# Altium footprint library 贴片元器件.PCBLIB: 208 footprints (part 13 of 13)
Each footprint in its own frame and in the unit in brackets; x right, y up, seen from the top. Pads: shape width x height; smd on the part's side, far side on the other; paste and mask are expansions set on the pad; w line width, h text height; cw(c..) or ccw(c..) is an arc to the next point about the centre after c.
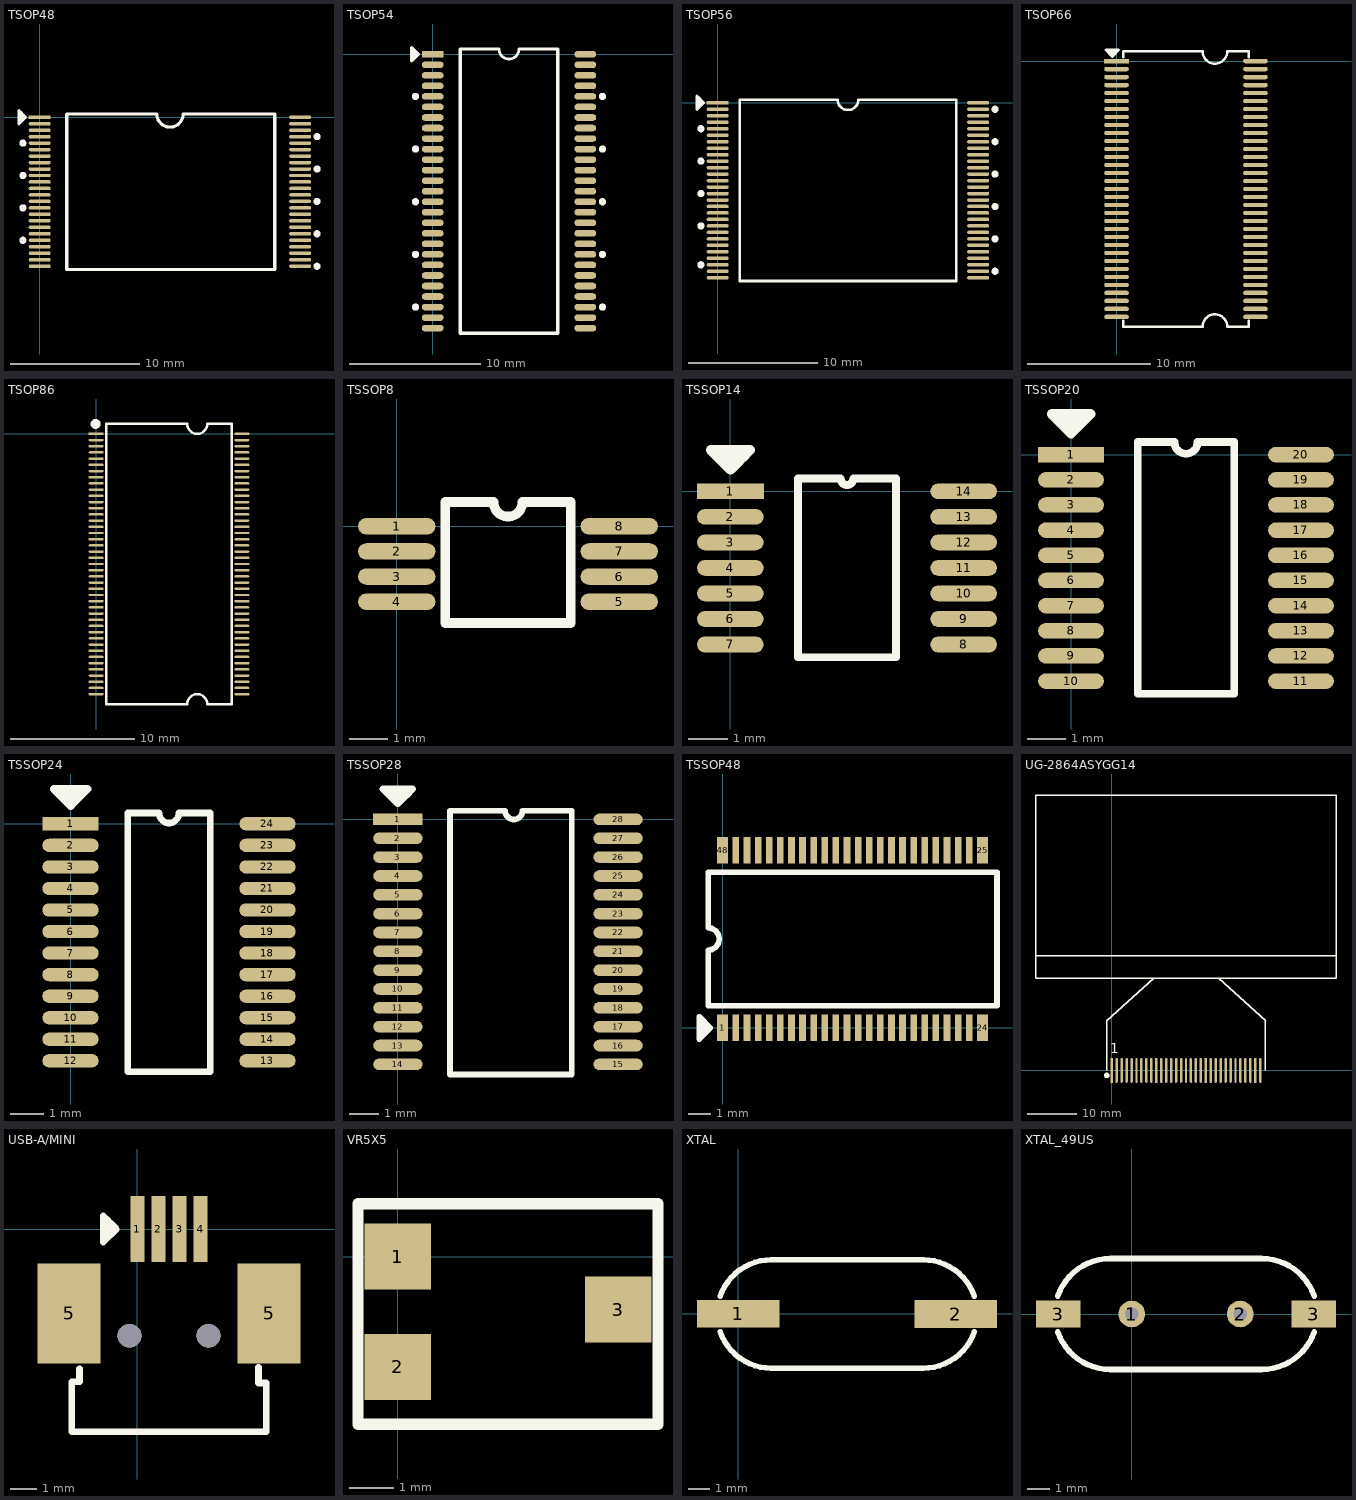
[diagram p12: the footprints below, top view; thin cyan lines are the x and y axes]

## TSOP48 [mm]
pads (48):
  rect 1.7x0.269 smd: 1(0,0)
  oval 1.7x0.269 smd: 2(0,-0.5) 3(0,-1) 4(0,-1.5) 5(0,-2) 6(0,-2.5) 7(0,-3) 8(0,-3.5) 9(0,-4) 10(0,-4.5) 11(0,-5) 12(0,-5.5) 13(0,-6) 14(0,-6.5) 15(0,-7) 16(0,-7.5) 17(0,-8) 18(0,-8.5) 19(0,-9) 20(0,-9.5) 21(0,-10) 22(0,-10.5) 23(0,-11) 24(0,-11.5) 25(20.1,-11.5) 26(20.1,-11) 27(20.1,-10.5) 28(20.1,-10) 29(20.1,-9.5) 30(20.1,-9) 31(20.1,-8.5) 32(20.1,-8) 33(20.1,-7.5) 34(20.1,-7) 35(20.1,-6.5) 36(20.1,-6) 37(20.1,-5.5) 38(20.1,-5) 39(20.1,-4.5) 40(20.1,-4) 41(20.1,-3.5) 42(20.1,-3) 43(20.1,-2.5) 44(20.1,-2) 45(20.1,-1.5) 46(20.1,-1) 47(20.1,-0.5) 48(20.1,0)
TopOverlay:
  circle w0.254: c-1.3,-2 r0.15
  circle w0.254: c-1.3,-4.5 r0.15
  circle w0.254: c-1.3,-7 r0.15
  circle w0.254: c-1.3,-9.5 r0.15
  circle w0.254: c21.4,-11.5 r0.15
  circle w0.254: c21.4,-9 r0.15
  circle w0.254: c21.4,-6.5 r0.15
  circle w0.254: c21.4,-4 r0.15
  circle w0.254: c21.4,-1.5 r0.15
  lines w0.254: -1.406,-0.306 -1.406,0.306 -1.6,0.5 ; -1.6,0.5 -1.6,-0.5 -1.1,0 -1.6,0.5 ; 2.085,-11.75 2.085,0.25 9.034,0.25 ccw(c10.05,0.25) 11.066,0.25 18.142,0.25 18.142,-11.75 2.085,-11.75

## TSOP54 [mm]
pads (54):
  rect 1.651x0.5 smd: 1(0,0)
  oval 1.651x0.5 smd: 2(0,-0.8) 3(0,-1.6) 4(0,-2.4) 5(0,-3.2) 6(0,-4) 7(0,-4.8) 8(0,-5.6) 9(0,-6.4) 10(0,-7.2) 11(0,-8) 12(0,-8.8) 13(0,-9.6) 14(0,-10.4) 15(0,-11.2) 16(0,-12) 17(0,-12.8) 18(0,-13.6) 19(0,-14.4) 20(0,-15.2) 21(0,-16) 22(0,-16.8) 23(0,-17.6) 24(0,-18.4) 25(0,-19.2) 26(0,-20) 27(0,-20.8) 28(11.6,-20.8) 29(11.6,-20) 30(11.6,-19.2) 31(11.6,-18.4) 32(11.6,-17.6) 33(11.6,-16.8) 34(11.6,-16) 35(11.6,-15.2) 36(11.6,-14.4) 37(11.6,-13.6) 38(11.6,-12.8) 39(11.6,-12) 40(11.6,-11.2) 41(11.6,-10.4) 42(11.6,-9.6) 43(11.6,-8.8) 44(11.6,-8) 45(11.6,-7.2) 46(11.6,-6.4) 47(11.6,-5.6) 48(11.6,-4.8) 49(11.6,-4) 50(11.6,-3.2) 51(11.6,-2.4) 52(11.6,-1.6) 53(11.6,-0.8) 54(11.6,0)
TopOverlay:
  circle w0.254: c12.9,-3.2 r0.15
  circle w0.254: c12.9,-7.2 r0.15
  circle w0.254: c12.9,-11.2 r0.15
  circle w0.254: c12.9,-15.2 r0.15
  circle w0.254: c12.9,-19.2 r0.15
  circle w0.254: c-1.3,-19.2 r0.15
  circle w0.254: c-1.3,-15.2 r0.15
  circle w0.254: c-1.3,-11.2 r0.15
  circle w0.254: c-1.3,-7.2 r0.15
  circle w0.254: c-1.3,-3.2 r0.15
  lines w0.203: 5.038,0.4 ccw(c5.8,0.4) 6.562,0.4
  lines w0.254: -1.406,-0.306 -1.406,0.306 -1.6,0.5 ; 5.038,0.4 2.085,0.4 2.085,-21.2 9.515,-21.2 9.515,0.4 6.562,0.4 ; -1.6,0.5 -1.6,-0.5 -1.1,0 -1.6,0.5

## TSOP56 [mm]
pads (56):
  rect 1.7x0.27 smd: 1(0,0)
  oval 1.7x0.27 smd: 2(0,-0.5) 3(0,-1) 4(0,-1.5) 5(0,-2) 6(0,-2.5) 7(0,-3) 8(0,-3.5) 9(0,-4) 10(0,-4.5) 11(0,-5) 12(0,-5.5) 13(0,-6) 14(0,-6.5) 15(0,-7) 16(0,-7.5) 17(0,-8) 18(0,-8.5) 19(0,-9) 20(0,-9.5) 21(0,-10) 22(0,-10.5) 23(0,-11) 24(0,-11.5) 25(0,-12) 26(0,-12.5) 27(0,-13) 28(0,-13.5) 29(20.1,-13.5) 30(20.1,-13) 31(20.1,-12.5) 32(20.1,-12) 33(20.1,-11.5) 34(20.1,-11) 35(20.1,-10.5) 36(20.1,-10) 37(20.1,-9.5) 38(20.1,-9) 39(20.1,-8.5) 40(20.1,-8) 41(20.1,-7.5) 42(20.1,-7) 43(20.1,-6.5) 44(20.1,-6) 45(20.1,-5.5) 46(20.1,-5) 47(20.1,-4.5) 48(20.1,-4) 49(20.1,-3.5) 50(20.1,-3) 51(20.1,-2.5) 52(20.1,-2) 53(20.1,-1.5) 54(20.1,-1) 55(20.1,-0.5) 56(20.1,0)
TopOverlay:
  circle w0.254: c-1.3,-2 r0.15
  circle w0.254: c-1.3,-4.5 r0.15
  circle w0.254: c-1.3,-7 r0.15
  circle w0.254: c-1.3,-9.5 r0.15
  circle w0.254: c-1.3,-12.5 r0.15
  circle w0.254: c21.4,-13 r0.15
  circle w0.254: c21.4,-10.5 r0.15
  circle w0.254: c21.4,-8 r0.15
  circle w0.254: c21.4,-5.5 r0.15
  circle w0.254: c21.4,-3 r0.15
  circle w0.254: c21.4,-0.5 r0.15
  lines w0.2: 1.685,-13.75 18.415,-13.75 18.415,0.25 10.85,0.25 cw(c10.05,0.25) 9.25,0.25 1.685,0.25 1.685,-13.75
  lines w0.254: -1.406,-0.306 -1.406,0.306 -1.6,0.5 ; -1.6,0.5 -1.6,-0.5 -1.1,0 -1.6,0.5

## TSOP66 [mm]
pads (66):
  rect 2x0.35 smd: 1(0,0)
  oval 2x0.35 smd: 2(0,-0.65) 3(0,-1.3) 4(0,-1.95) 5(0,-2.6) 6(0,-3.25) 7(0,-3.9) 8(0,-4.55) 9(0,-5.2) 10(0,-5.85) 11(0,-6.5) 12(0,-7.15) 13(0,-7.8) 14(0,-8.45) 15(0,-9.1) 16(0,-9.75) 17(0,-10.4) 18(0,-11.05) 19(0,-11.7) 20(0,-12.35) 21(0,-13) 22(0,-13.65) 23(0,-14.3) 24(0,-14.95) 25(0,-15.6) 26(0,-16.25) 27(0,-16.9) 28(0,-17.55) 29(0,-18.2) 30(0,-18.85) 31(0,-19.5) 32(0,-20.15) 33(0,-20.8) 34(11.3,-20.8) 35(11.3,-20.15) 36(11.3,-19.5) 37(11.3,-18.85) 38(11.3,-18.2) 39(11.3,-17.55) 40(11.3,-16.9) 41(11.3,-16.25) 42(11.3,-15.6) 43(11.3,-14.95) 44(11.3,-14.3) 45(11.3,-13.65) 46(11.3,-13) 47(11.3,-12.35) 48(11.3,-11.7) 49(11.3,-11.05) 50(11.3,-10.4) 51(11.3,-9.75) 52(11.3,-9.1) 53(11.3,-8.45) 54(11.3,-7.8) 55(11.3,-7.15) 56(11.3,-6.5) 57(11.3,-5.85) 58(11.3,-5.2) 59(11.3,-4.55) 60(11.3,-3.9) 61(11.3,-3.25) 62(11.3,-2.6) 63(11.3,-1.95) 64(11.3,-1.3) 65(11.3,-0.65) 66(11.3,0)
TopOverlay:
  lines w0.2: 0.55,-21.1 0.55,-21.6 7,-21.6 cw(c8,-21.6) 9,-21.6 10.75,-21.6 10.75,-21.1 ; 0.55,0.3 0.55,0.8 7,0.8 ccw(c8,0.8) 9,0.8 10.75,0.8 10.75,0.3
  lines w0.254: -0.656,0.706 -0.044,0.706 0.15,0.9 ; 0.15,0.9 -0.85,0.9 -0.35,0.4 0.15,0.9

## TSOP86 [mm]
pads (86):
  rect 1.2x0.2 smd: 1(0,0)
  oval 1.2x0.2 smd: 2(0,-0.5) 3(0,-1) 4(0,-1.5) 5(0,-2) 6(0,-2.5) 7(0,-3) 8(0,-3.5) 9(0,-4) 10(0,-4.5) 11(0,-5) 12(0,-5.5) 13(0,-6) 14(0,-6.5) 15(0,-7) 16(0,-7.5) 17(0,-8) 18(0,-8.5) 19(0,-9) 20(0,-9.5) 21(0,-10) 22(0,-10.5) 23(0,-11) 24(0,-11.5) 25(0,-12) 26(0,-12.5) 27(0,-13) 28(0,-13.5) 29(0,-14) 30(0,-14.5) 31(0,-15) 32(0,-15.5) 33(0,-16) 34(0,-16.5) 35(0,-17) 36(0,-17.5) 37(0,-18) 38(0,-18.5) 39(0,-19) 40(0,-19.5) 41(0,-20) 42(0,-20.5) 43(0,-21) 44(11.76,-21) 45(11.76,-20.5) 46(11.76,-20) 47(11.76,-19.5) 48(11.76,-19) 49(11.76,-18.5) 50(11.76,-18) 51(11.76,-17.5) 52(11.76,-17) 53(11.76,-16.5) 54(11.76,-16) 55(11.76,-15.5) 56(11.76,-15) 57(11.76,-14.5) 58(11.76,-14) 59(11.76,-13.5) 60(11.76,-13) 61(11.76,-12.5) 62(11.76,-12) 63(11.76,-11.5) 64(11.76,-11) 65(11.76,-10.5) 66(11.76,-10) 67(11.76,-9.5) 68(11.76,-9) 69(11.76,-8.5) 70(11.76,-8) 71(11.76,-7.5) 72(11.76,-7) 73(11.76,-6.5) 74(11.76,-6) 75(11.76,-5.5) 76(11.76,-5) 77(11.76,-4.5) 78(11.76,-4) 79(11.76,-3.5) 80(11.76,-3) 81(11.76,-2.5) 82(11.76,-2) 83(11.76,-1.5) 84(11.76,-1) 85(11.76,-0.5) 86(11.76,0)
TopOverlay:
  circle w0.4: c-0.04,0.8 r0.2
  lines w0.2: 0.8,-21.8 0.8,0.8 7.36,0.8 ccw(c8.16,0.8) 8.96,0.8 10.96,0.8 10.96,-21.8 8.96,-21.8 ccw(c8.16,-21.8) 7.36,-21.8 0.8,-21.8

## TSSOP8 [mil]
pads (8):
  oval 80x17 smd: 1(0,0) 2(0,-26) 3(0,-52) 4(0,-78) 5(230,-78) 6(230,-52) 7(230,-26) 8(230,0)
TopOverlay:
  lines w10: 50,-100 180,-100 180,25 130,25 cw(c115,25) 100,25 50,25 50,-100

## TSSOP14 [mm]
pads (14):
  rect 1.7x0.4 smd: 1(0,0)
  oval 1.7x0.4 smd: 2(0,-0.65) 3(0,-1.3) 4(0,-1.95) 5(0,-2.6) 6(0,-3.25) 7(0,-3.9) 8(5.94,-3.9) 9(5.94,-3.25) 10(5.94,-2.6) 11(5.94,-1.95) 12(5.94,-1.3) 13(5.94,-0.65) 14(5.94,0)
TopOverlay:
  lines w0.2: 1.725,-4.225 4.215,-4.225 4.215,0.325 3.132,0.325 cw(c2.97,0.325) 2.808,0.325 1.725,0.325 1.725,-4.225
  lines w0.254: -0.306,0.856 0.306,0.856 0.5,1.05 ; 0.5,1.05 -0.5,1.05 0,0.55 0.5,1.05

## TSSOP20 [mm]
pads (20):
  rect 1.7x0.4 smd: 1(0,0)
  oval 1.7x0.4 smd: 2(0,-0.65) 3(0,-1.3) 4(0,-1.95) 5(0,-2.6) 6(0,-3.25) 7(0,-3.9) 8(0,-4.55) 9(0,-5.2) 10(0,-5.85) 11(5.94,-5.85) 12(5.94,-5.2) 13(5.94,-4.55) 14(5.94,-3.9) 15(5.94,-3.25) 16(5.94,-2.6) 17(5.94,-1.95) 18(5.94,-1.3) 19(5.94,-0.65) 20(5.94,0)
TopOverlay:
  lines w0.2: 1.725,-6.175 4.215,-6.175 4.215,0.325 3.27,0.325 cw(c2.97,0.325) 2.67,0.325 1.725,0.325 1.725,-6.175
  lines w0.254: -0.306,0.856 0.306,0.856 0.5,1.05 ; 0.5,1.05 0,0.55 -0.5,1.05 0.5,1.05

## TSSOP24 [mm]
pads (24):
  rect 1.7x0.4 smd: 1(0,0)
  oval 1.7x0.4 smd: 2(0,-0.65) 3(0,-1.3) 4(0,-1.95) 5(0,-2.6) 6(0,-3.25) 7(0,-3.9) 8(0,-4.55) 9(0,-5.2) 10(0,-5.85) 11(0,-6.5) 12(0,-7.15) 13(5.94,-7.15) 14(5.94,-6.5) 15(5.94,-5.85) 16(5.94,-5.2) 17(5.94,-4.55) 18(5.94,-3.9) 19(5.94,-3.25) 20(5.94,-2.6) 21(5.94,-1.95) 22(5.94,-1.3) 23(5.94,-0.65) 24(5.94,0)
TopOverlay:
  lines w0.2: 1.725,-7.475 1.725,0.325 2.67,0.325 ccw(c2.97,0.325) 3.27,0.325 4.215,0.325 4.215,-7.475 1.725,-7.475
  lines w0.254: -0.306,0.856 0.306,0.856 0.5,1.05 ; 0.5,1.05 0,0.55 -0.5,1.05 0.5,1.05

## TSSOP28 [mm]
pads (28):
  rect 1.7x0.4 smd: 1(0,0)
  oval 1.7x0.4 smd: 2(0,-0.65) 3(0,-1.3) 4(0,-1.95) 5(0,-2.6) 6(0,-3.25) 7(0,-3.9) 8(0,-4.55) 9(0,-5.2) 10(0,-5.85) 11(0,-6.5) 12(0,-7.15) 13(0,-7.8) 14(0,-8.45) 15(7.6,-8.45) 16(7.6,-7.8) 17(7.6,-7.15) 18(7.6,-6.5) 19(7.6,-5.85) 20(7.6,-5.2) 21(7.6,-4.55) 22(7.6,-3.9) 23(7.6,-3.25) 24(7.6,-2.6) 25(7.6,-1.95) 26(7.6,-1.3) 27(7.6,-0.65) 28(7.6,0)
TopOverlay:
  lines w0.2: 1.8,-8.8 1.8,0.3 3.7,0.3 ccw(c4,0.3) 4.3,0.3 6,0.3 6,-8.8 1.8,-8.8
  lines w0.254: -0.306,0.856 0.306,0.856 0.5,1.05 ; 0.5,1.05 -0.5,1.05 0,0.55 0.5,1.05

## TSSOP48 [mm]
pads (48):
  rect 0.5x1.2 smd: 1(0,0) 24(11.7,0) 25(11.7,8) 48(0,8)
  rect 0.3x1.2 smd: 2(0.6,0) 3(1.1,0) 4(1.6,0) 5(2.1,0) 6(2.6,0) 7(3.1,0) 8(3.6,0) 9(4.1,0) 10(4.6,0) 11(5.1,0) 12(5.6,0) 13(6.1,0) 14(6.6,0) 15(7.1,0) 16(7.6,0) 17(8.1,0) 18(8.6,0) 19(9.1,0) 20(9.6,0) 21(10.1,0) 22(10.6,0) 23(11.1,0) 26(11.1,8) 27(10.6,8) 28(10.1,8) 29(9.6,8) 30(9.1,8) 31(8.6,8) 32(8.1,8) 33(7.6,8) 34(7.1,8) 35(6.6,8) 36(6.1,8) 37(5.6,8) 38(5.1,8) 39(4.6,8) 40(4.1,8) 41(3.6,8) 42(3.1,8) 43(2.6,8) 44(2.1,8) 45(1.6,8) 46(1.1,8) 47(0.6,8)
TopOverlay:
  lines w0.254: -0.856,-0.306 -0.856,0.306 -1.05,0.5 ; -1.05,0.5 -1.05,-0.5 -0.55,0 -1.05,0.5 ; -0.65,1 12.35,1 12.35,7 -0.65,7 -0.65,4.5 cw(c-0.65,4) -0.65,3.5 -0.65,1

## UG-2864ASYGG14 [mm]
pads (31):
  rect 0.5x5 smd: 1(0,0) 10(9,0) 20(19,0) 30(29,0)
  oval 0.5x5 smd: 2(1,0) 3(2,0) 4(3,0) 5(4,0) 6(5,0) 7(6,0) 8(7,0) 9(8,0) 11(10,0) 12(11,0) 13(12,0) 14(13,0) 15(14,0) 16(15,0) 17(16,0) 18(17,0) 19(18,0) 21(20,0) 22(21,0) 23(22,0) 24(23,0) 25(24,0) 26(25,0) 27(26,0) 28(27,0) 29(28,0) 31(30,0)
TopOverlay:
  circle w0.5: c-1,-1 r0.3
  lines w0.254: -15.3,23.2 45.3,23.2 ; -1,0 -1,10 8.5,18.6 ; 21.6,18.6 31.1,10 ; 31,0 31,10 ; -15.3,18.6 -5.3,18.6 -1,18.6 31,18.6 35.3,18.6 45.3,18.6 45.3,55.6 -15.3,55.6 -15.3,18.6
  text "1" at -0.3,3.5 h2

## USB-A/MINI [mm]
pads (6):
  rect 0.54x2.5 smd: 1(0,0) 2(0.8,0) 3(1.6,0) 4(2.4,0)
  rect 2.4x3.8 smd: 5(-2.6,-3.2) 5(5,-3.2)
via -0.3,-4.05 diameter 0.9 hole 0.9
via 2.7,-4.05 diameter 0.9 hole 0.9
TopOverlay:
  lines w0.254: -2.2,-5.3 -2.2,-5.8 -2.5,-5.8 -2.5,-7.7 4.9,-7.7 4.9,-5.85 4.6,-5.85 4.6,-5.25 ; -1.106,-0.306 -1.106,0.306 -1.3,0.5 ; -1.3,0.5 -0.8,0 -1.3,-0.5 -1.3,0.5

## VR5X5 [mm]
pads (3):
  rect 1.5x1.5 smd: 1(0,0) 2(0,-2.5) 3(5,-1.2)
TopOverlay:
  lines w0.254: -0.9,-3.8 -0.9,1.2 5.9,1.2 5.9,-3.8 -0.9,-3.8

## XTAL [mil]
pads (2):
  rect 150x50 smd: 1(0,0) 2(394.93,-0.5)
TopOverlay:
  lines w10: -33,-32.35 ccw(c60.13,-0.5) 60.13,-98.92 ; -33,31.35 cw(c60.13,-0.5) 60.13,97.92 ; 59.92,-98.92 335.93,-98.92 ; 60.13,97.93 335.72,97.93 ; 335.72,-98.92 ccw(c335.72,-0.5) 428.85,-32.35 ; 335.72,97.92 cw(c335.72,-0.5) 428.85,31.35

## XTAL_49US [mm]
pads (4):
  round 1.2 hole 0.6: 1(0,0) 2(4.88,0)
  rect 2x1.2 smd: 3(-3.31,0) 3(8.19,0)
TopOverlay:
  lines w0.254: -3.325,-0.809 ccw(c-0.96,0) -0.96,-2.5 ; -3.325,0.809 cw(c-0.96,0) -0.96,2.5 ; -0.965,-2.5 5.84,-2.5 ccw(c5.84,0) 8.205,-0.809 ; -0.96,2.5 5.84,2.5 cw(c5.84,0) 8.205,0.809